# Altium footprint library PcbLib1.PcbLib: 1 footprints
Each footprint in its own frame and in the unit in brackets; x right, y up, seen from the top. Pads: shape width x height; smd on the part's side, far side on the other; paste and mask are expansions set on the pad; w line width, h text height; cw(c..) or ccw(c..) is an arc to the next point about the centre after c.
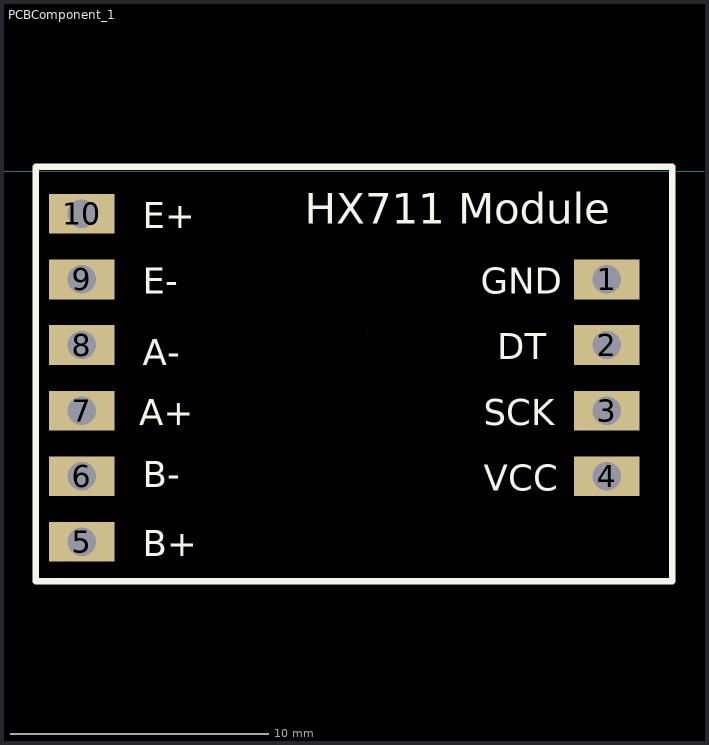
[diagram p0: the footprint, top view; thin cyan lines are the x and y axes]

## PCBComponent_1 [mil]
pads (10):
  rect 100x60.63 hole 43.31 paste+0 mask+4: 1(1110,-165) 2(1110,-265) 3(1110,-365) 4(1110,-465) 5(310,-565) 6(310,-465) 7(310,-365) 8(310,-265) 9(310,-165) 10(310,-65)
Top Overlay:
  lines w10: 240,5 240,-625 1210,-625 ; 240,6.7 1210,6.7 1210,-623.3
  text "E+" at 403,-87 h39.37
  text "E-" at 403,-187 h39.37
  text "A+" at 398,-387 h39.37
  text "B-" at 403,-482 h39.37
  text "B+" at 403,-587 h39.37
  text "VCC" at 923,-487 h39.37
  text "SCK" at 923,-387 h39.37
  text "DT" at 943,-287 h39.37
  text "GND" at 918,-187 h39.37
  text "HX711 Module" at 650,-95 h80
  text "A-" at 403,-296.15 h39.37
Mechanical 15:
  lines w0.1: 744.99,-248.31 745.01,-248.29